# EAGLE library part NEM_651 (library con-nem)
NEM651 Decoder Plug
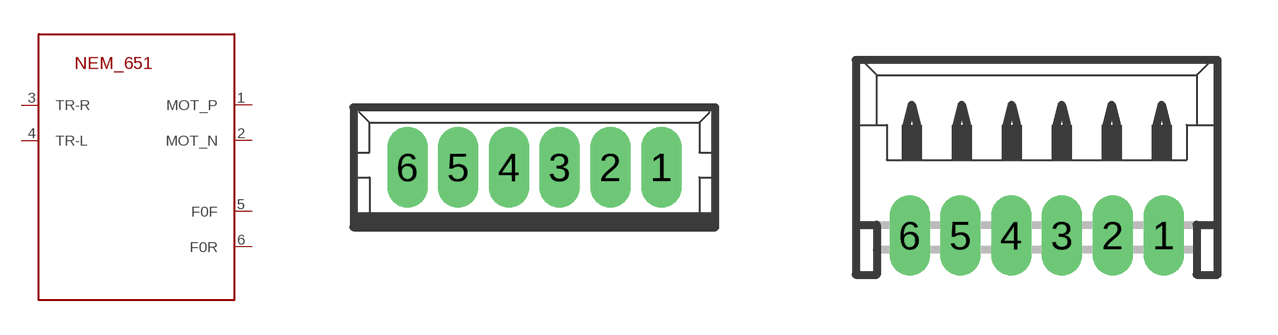
[diagram p6: symbol with the pads of 53047-06; footprints 53047-06, 53048-06]

Designator prefix -

## NEM_651-TS  [53047-06]
1  MOT_P
2  MOT_N
3  TR-R
4  TR-L
5  F0F
6  F0R

## NEM_651-TA  [53048-06]
Pads as for 53047-06

## NEM_651-SA  [53261-06]
Pads as for 53047-06

## NEM_651-SS  [53398-06]
Pads as for 53047-06

## NEM_651-ST  [SAMTEC_SIDE]
Pads as for 53047-06

## NEM_651-SF  [SAMTEC_SIDE_FLIPPED]
Pads as for 53047-06

## Footprint 53047-06 (pad centres in mm)
CONNECTOR wire to board 1.27 mm (.05 inch) pitch header straight
drill 0.5 pad 0.698 long: 1 3.175,0; 2 1.905,0; 3 0.635,0; 4 -0.635,0; 5 -1.905,0; 6 -3.175,0

## Footprint 53048-06 (pad centres in mm)
CONNECTOR wire to board 1.27 mm (.05 inch) pitch header right angle
drill 0.5 pad 0.698 long: 1 3.175,-1.27; 2 1.905,-1.27; 3 0.635,-1.27; 4 -0.635,-1.27; 5 -1.905,-1.27; 6 -3.175,-1.27

## Footprint 53261-06 (pad centres in mm)
CONNECTOR wire to board 1.27 mm (.05 inch) pitch header SMT right angle
smd 0.8 x 2: 1 3.175,-2.54; 2 1.905,-2.54; 3 0.635,-2.54; 4 -0.635,-2.54; 5 -1.905,-2.54; 6 -3.175,-2.54
smd 2.1 x 3: S1 5.625,0.625; S2 -5.625,0.625

## Footprint 53398-06 (pad centres in mm)
CONNECTOR wire to board 1.27 mm (.05 inch) pitch header SMT straight
smd 0.8 x 1.8: 1 3.175,-2.54; 2 1.905,-2.54; 3 0.635,-2.54; 4 -0.635,-2.54; 5 -1.905,-2.54; 6 -3.175,-2.54
smd 2.1 x 3: S1 5.625,0.625; S2 -5.625,0.625

## Footprint SAMTEC_SIDE (pad centres in mm)
SMD, Pitch 1,27mm, useful for Samtec SMS-1-106-***, side mounting
smd 0.914 x 1.778: 1 3.175,0; 2 1.905,0; 3 0.635,0; 4 -0.635,0; 5 -1.905,0; 6 -3.175,0

## Footprint SAMTEC_SIDE_FLIPPED (pad centres in mm)
smd 0.914 x 1.778: 1 -3.175,0; 2 -1.905,0; 3 -0.635,0; 4 0.635,0; 5 1.905,0; 6 3.175,0